# Altium footprint library WR-USB.PcbLib: 55 footprints (part 3 of 4)
Each footprint in its own frame and in the unit in brackets; x right, y up, seen from the top. Pads: shape width x height; smd on the part's side, far side on the other; paste and mask are expansions set on the pad; w line width, h text height; cw(c..) or ccw(c..) is an arc to the next point about the centre after c.
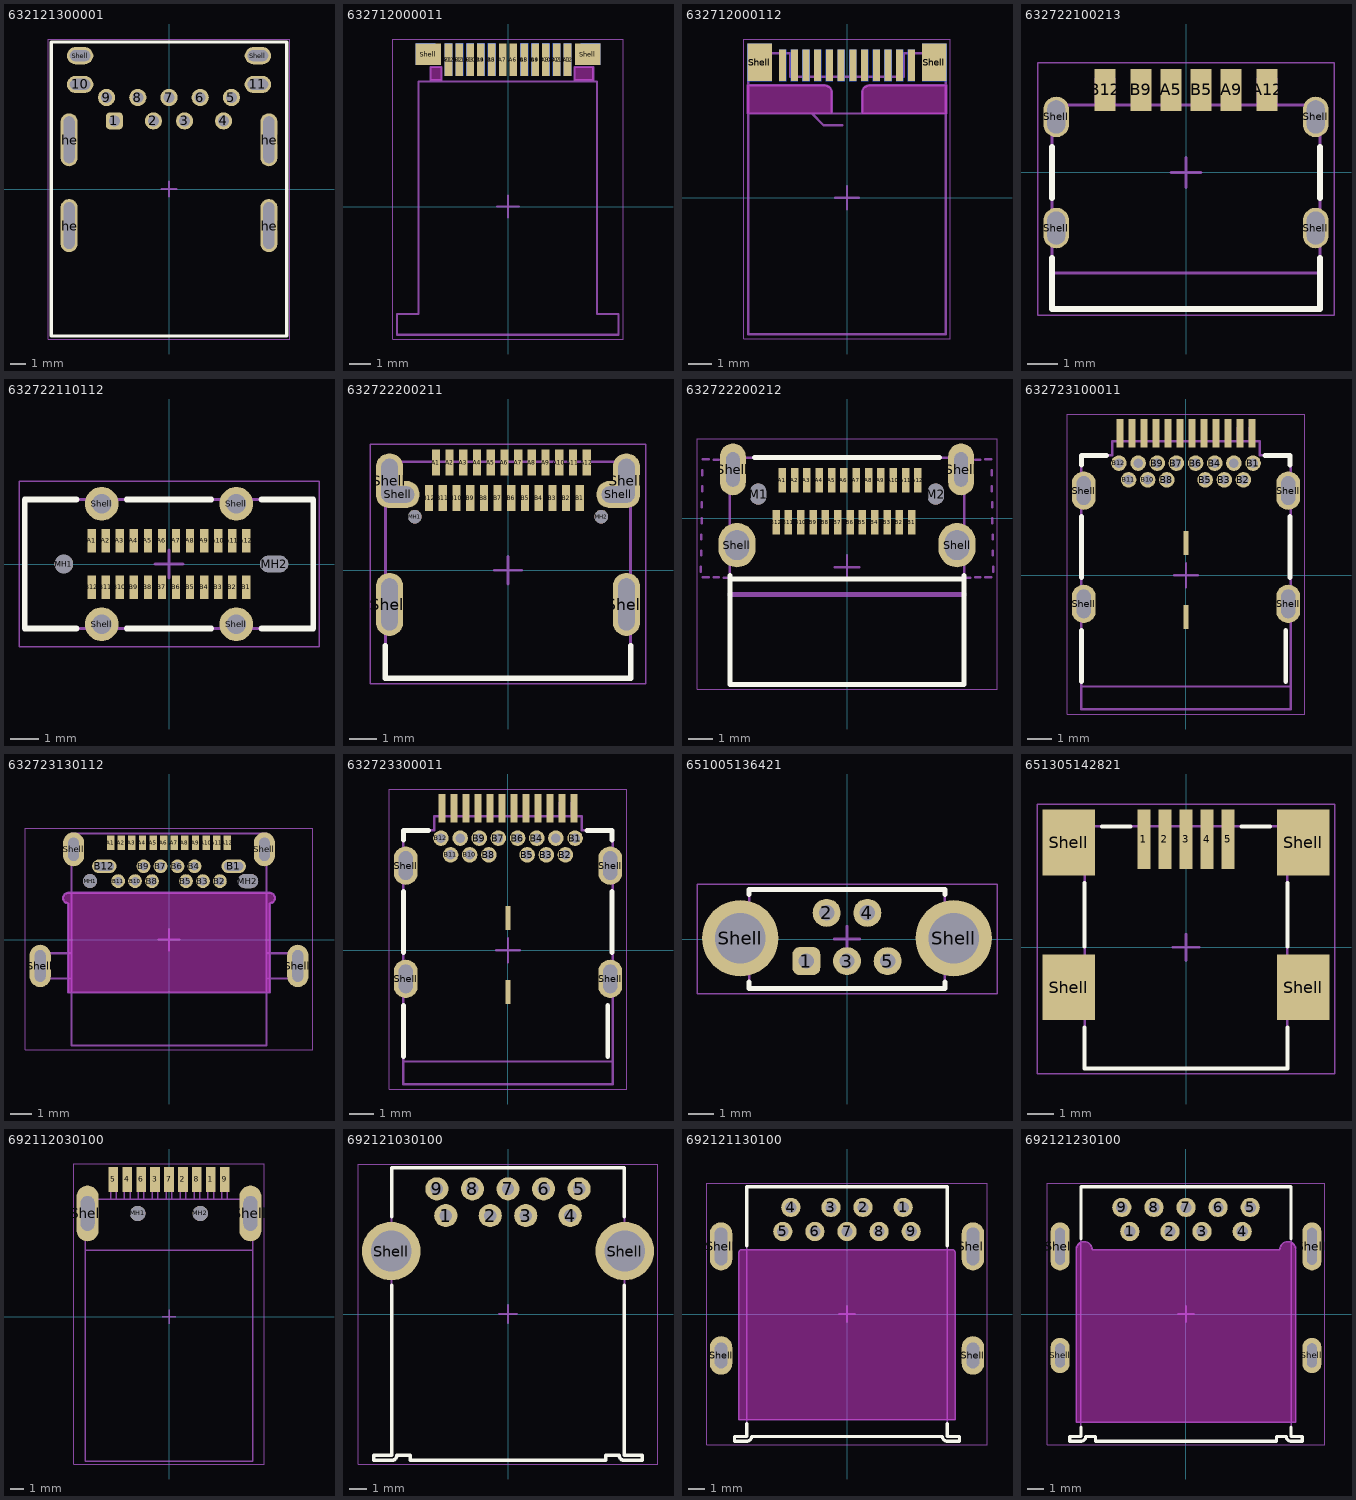
[diagram p2: the footprints below, top view; thin cyan lines are the x and y axes]

## 632121300001 [mm] "USB 3.1 Type A Receptacle Horizontal THT Power Delivery"
height 8.01
pads (17):
  rrect50% 1.1x1.1 hole 0.7: 1(-3.5,4.365)
  round 1.1 hole 0.7: 2(-1,4.365) 3(1,4.365) 4(3.5,4.365) 5(4,5.865) 6(2,5.865) 7(0,5.865) 8(-2,5.865) 9(-4,5.865)
  oval 1.7x1.1 hole 0.7 slot 1.3 at 0 deg: 10(-5.7,6.705) 11(5.7,6.705) Shell(-5.7,8.545) Shell(5.7,8.545)
  oval 1.1x3.4 hole 0.7 slot 3 at 90 deg: Shell(-6.4,-2.345) Shell(-6.4,3.155) Shell(6.4,-2.345) Shell(6.4,3.155)
Top Overlay:
  lines w0.2: -7.55,-9.415 7.55,-9.415 7.55,9.415 -7.55,9.415 -7.55,-9.415
Top Assembly:
  lines w0.1: -7.55,-9.415 -7.55,9.415 7.55,9.415 7.55,-9.415 -7.55,-9.415
Top Designator:
  text ".Designator" at -3.647,-0.357 h1
Top 3D Body:
  lines w0.1: -7.55,-9.415 -7.55,9.415 7.55,9.415 7.55,-9.415 -7.55,-9.415
Top Courtyard:
  lines w0.05: -7.75,-9.615 -7.75,9.615 7.75,9.615 7.75,-9.615 -7.75,-9.615
Top Component Center:
  lines w0.1: -0.5,0 0.5,0 ; 0,-0.5 0,0.5
3D body "632121300001.stp": height 8.06, standoff -1.76, extent -7.55,-9.415 7.55,9.415

## 632712000011 [mm] "USB 3.1 Type C Plug Horizontal SMT"
height 2.4
pads (26):
  rect 0.35x1.5 smd: A1(2.75,6.8) A2(2.25,6.8) A3(1.75,6.8) A4(1.25,6.8) A5(0.75,6.8) A6(0.25,6.8) A7(-0.25,6.8) A8(-0.75,6.8) A9(-1.25,6.8) A10(-1.75,6.8) A11(-2.25,6.8) A12(-2.75,6.8)
  rect 0.35x1.5 smd far side: B1(-2.75,6.8) B2(-2.25,6.8) B3(-1.75,6.8) B4(-1.25,6.8) B5(-0.75,6.8) B8(0.75,6.8) B9(1.25,6.8) B10(1.75,6.8) B11(2.25,6.8) B12(2.75,6.8)
  rect 0.9x1 smd far side: Shell(-3.825,7.05) Shell(3.825,7.05)
  rect 1.18x1 smd: Shell(-3.69,7.05) Shell(3.69,7.05)
Keep-Out Layer:
  board cut-out: -3.58,5.85 -3.58,6.45 -3.08,6.45 -3.08,5.85
  board cut-out: 3.075,5.85 3.075,6.45 3.945,6.45 3.945,5.85
Board Shape:
  lines w0.1: -3.58,5.85 -3.08,5.85 -3.08,6.45 -3.58,6.45 -3.58,5.85 ; 3.075,5.85 3.945,5.85 3.945,6.45 3.075,6.45 3.075,5.85
Top Assembly:
  lines w0.1: -5.135,-5.92 -5.135,-4.97 -4.135,-4.97 -4.135,5.78 4.115,5.78 4.115,-4.97 5.115,-4.97 5.115,-5.92 -5.135,-5.92
Top Designator:
  text ".Designator" at -3.647,-0.357 h1
Top 3D Body:
  lines w0.1: -5.135,-5.92 -5.135,-4.97 -4.135,-4.97 -4.135,5.78 4.115,5.78 4.115,-4.97 5.115,-4.97 5.115,-5.92 -5.135,-5.92
Top Courtyard:
  lines w0.05: -5.335,-6.12 -5.335,7.75 5.335,7.75 5.335,-6.12 -5.335,-6.12
Top Component Center:
  lines w0.1: -0.5,0 0.5,0 ; 0,-0.5 0,0.5
3D body "632712000011.stp": height 1.74, standoff -2.46, extent -5.135,-5.92 5.115,7.48

## 632712000112 [mm] "USB_ Type C 3.1 Plug_Horizontal_SMT_0,8mm"
height 3.87
pads (28):
  rect 0.3x1.35 smd: A1(2.75,5.65) A2(2.25,5.65) A3(1.75,5.65) A4(1.25,5.65) A5(0.75,5.65) A6(0.25,5.65) A7(-0.25,5.65) A8(-0.75,5.65) A9(-1.25,5.65) A10(-1.75,5.65) A11(-2.25,5.65) A12(-2.75,5.65)
  rect 0.3x1.35 smd far side: B1(-2.75,5.65) B2(-2.25,5.65) B3(-1.75,5.65) B4(-1.25,5.65) B5(-0.75,5.65) B6(-0.25,5.65) B7(0.25,5.65) B8(0.75,5.65) B9(1.25,5.65) B10(1.75,5.65) B11(2.25,5.65) B12(2.75,5.65)
  rect 1.04x1.6 smd: Shell(-3.73,5.775) Shell(3.73,5.775)
  rect 1.04x1.6 smd far side: Shell(-3.73,5.775) Shell(3.73,5.775)
Keep-Out Layer:
  board cut-out: -4.25,3.595 -4.25,4.795 -0.95,4.795 -0.89,4.795 -0.78,4.749 -0.696,4.665 -0.65,4.555 -0.65,4.495 -0.65,3.595
  board cut-out: 0.65,3.595 0.65,4.495 0.65,4.555 0.696,4.665 0.78,4.749 0.89,4.795 0.95,4.795 4.25,4.795 4.25,3.595
Board Shape:
  lines w0.1: 4.25,4.795 4.25,3.595 0.65,3.595 0.65,4.495 cw(c0.95,4.495) 0.95,4.795 4.25,4.795 ; -4.25,3.595 -0.65,3.595 -0.65,4.495 ccw(c-0.95,4.495) -0.95,4.795 -4.25,4.795 -4.25,3.595
Assembly Notes:
  lines w0.1: -4.25,3.595 4.25,3.595 ; -1.5,3.595 -1,3.095 -0.2,3.095
  text "PCB End" at 0,2.695 h1.02
Top Assembly:
  lines w0.1: -4.215,-5.83 4.215,-5.83 4.215,6.17 2.43,6.17 2.43,5.17 -2.43,5.17 -2.43,6.17 -4.215,6.17 -4.215,-5.83
Top Designator:
  text ".Designator" at -3.647,-0.357 h1
Top 3D Body:
  lines w0.1: -4.215,-5.83 4.215,-5.83 4.215,6.17 2.43,6.17 2.43,5.17 -2.43,5.17 -2.43,6.17 -4.215,6.17 -4.215,-5.83
Top Courtyard:
  lines w0.05: -4.415,-6.03 4.415,-6.03 4.415,6.775 -4.415,6.775 -4.415,-6.03
Top Component Center:
  lines w0.1: -0.5,0 0.5,0 ; 0,-0.5 0,0.5
3D body "632712000112.stp": height 1.51, standoff -2.21, extent -4.215,-5.83 4.215,6.17

## 632722100213 [mm] "USB type C receptacle connector"
height 3.28
pads (10):
  rect 0.7x1.4 smd: A5(-0.5,2.75) A9(1.5,2.75) A12(2.7,2.75) B5(0.5,2.75) B9(-1.5,2.75) B12(-2.7,2.75)
  oval 0.85x1.35 hole 0.6 slot 1.1 at 90 deg: Shell(-4.32,-1.85) Shell(-4.32,1.85) Shell(4.32,-1.85) Shell(4.32,1.85)
Top Overlay:
  lines w0.2: -4.47,-2.85 -4.47,-4.55 4.47,-4.55 4.47,-2.85 ; -4.47,-0.85 -4.47,0.85 ; 4.47,-0.85 4.47,0.85
Assembly Notes:
  lines w0.1: -4.5,-3.35 4.5,-3.35
  text "PCB Edge" at -2.034,-4.332 h1
Top Assembly:
  lines w0.1: -3,2.25 -3,3.15 -2.4,3.15 -2.4,2.25 ; -1.75,2.25 -1.75,3.15 -1.25,3.15 -1.25,2.25 ; -0.75,2.25 -0.75,3.15 -0.25,3.15 -0.25,2.25 ; 0.25,2.25 0.25,3.15 0.75,3.15 0.75,2.25 ; 1.25,2.25 1.25,3.15 1.75,3.15 1.75,2.25 ; 2.4,2.25 2.4,3.15 3,3.15 3,2.25 ; -4.47,-4.55 -4.47,2.25 4.47,2.25 4.47,-4.55 -4.47,-4.55
Top Designator:
  text ".Designator" at -3.647,-0.357 h1
Top 3D Body:
  lines w0.1: -3,2.25 -3,3.15 -2.4,3.15 -2.4,2.25 ; -1.75,2.25 -1.75,3.15 -1.25,3.15 -1.25,2.25 ; -0.75,2.25 -0.75,3.15 -0.25,3.15 -0.25,2.25 ; 0.25,2.25 0.25,3.15 0.75,3.15 0.75,2.25 ; 1.25,2.25 1.25,3.15 1.75,3.15 1.75,2.25 ; 2.4,2.25 2.4,3.15 3,3.15 3,2.25 ; -4.47,-4.55 4.47,-4.55 4.47,2.25 -4.47,2.25 -4.47,-4.55
Top Courtyard:
  lines w0.05: -4.945,-4.75 4.945,-4.75 4.945,3.65 -4.945,3.65 -4.945,-4.75
Top Component Center:
  lines w0.1: -0.5,0 0.5,0 ; 0,-0.5 0,0.5
3D body "632722100213.stp": height 3.3, standoff -1.15, extent -4.47,-4.55 4.47,3.15

## 632722110112 [mm] "USB_Type C 3.1_Vertical_SMT_1,0mm"
height 7.6
pads (30):
  rect 0.3x0.85 smd: A1(-2.75,0.83) A2(-2.25,0.83) A3(-1.75,0.83) A4(-1.25,0.83) A5(-0.75,0.83) A6(-0.25,0.83) A7(0.25,0.83) A8(0.75,0.83) A9(1.25,0.83) A10(1.75,0.83) A11(2.25,0.83) A12(2.75,0.83) B1(2.75,-0.83) B2(2.25,-0.83) B3(1.75,-0.83) B4(1.25,-0.83) B5(0.75,-0.83) B6(0.25,-0.83) B7(-0.25,-0.83) B8(-0.75,-0.83) B9(-1.25,-0.83) B10(-1.75,-0.83) B11(-2.25,-0.83) B12(-2.75,-0.83)
  round 0.66 hole 0.66 unplated: MH1(-3.75,0)
  oval 1x0.58 hole 0.58 slot 1 at 0 deg unplated: MH2(3.75,0)
  round 1.2 hole 0.7: Shell(-2.4,-2.15) Shell(-2.4,2.15) Shell(2.4,-2.15) Shell(2.4,2.15)
Top Overlay:
  lines w0.2: -3.3,-2.3 -5.15,-2.3 -5.15,2.3 -3.3,2.3 ; -1.5,-2.3 1.5,-2.3 ; -1.5,2.3 1.5,2.3 ; 3.3,-2.3 5.15,-2.3 5.15,2.3 3.3,2.3
Top Assembly:
  lines w0.1: -5.15,-2.3 -5.15,2.3 5.15,2.3 5.15,-2.3 -5.15,-2.3
Top Designator:
  text ".Designator" at -3.647,-0.357 h1
Top 3D Body:
  lines w0.1: -5.15,-2.3 -5.15,2.3 5.15,2.3 5.15,-2.3 -5.15,-2.3
Top Courtyard:
  lines w0.05: -5.35,-2.95 5.35,-2.95 5.35,2.95 -5.35,2.95 -5.35,-2.95
Top Component Center:
  lines w0.1: -0.5,0 0.5,0 ; 0,-0.5 0,0.5
3D body "632722110112.stp": height 7.95, standoff -1.32, extent -5.15,-2.3 5.15,2.3

## 632722200211 [mm] "USB 3.1 Type C"
height 3.16
pads (32):
  rect 0.3x0.95 smd: A1(-2.63,3.925) A2(-2.13,3.925) A3(-1.63,3.925) A4(-1.13,3.925) A5(-0.63,3.925) A6(-0.13,3.925) A7(0.37,3.925) A8(0.87,3.925) A9(1.37,3.925) A10(1.87,3.925) A11(2.37,3.925) A12(2.87,3.925) B1(2.62,2.625) B2(2.12,2.625) B3(1.62,2.625) B4(1.12,2.625) B5(0.62,2.625) B6(0.12,2.625) B7(-0.38,2.625) B8(-0.88,2.625) B9(-1.38,2.625) B10(-1.88,2.625) B11(-2.38,2.625) B12(-2.88,2.625)
  round 0.5 hole 0.5 unplated: MH1(-3.4,1.95) MH2(3.4,1.95)
  oval 1x2.3 hole 0.6 slot 1.9 at 90 deg: Shell(-4.32,-1.25) Shell(4.32,-1.25)
  oval 1x2 hole 0.6 slot 1.6 at 90 deg: Shell(-4.32,3.26) Shell(4.32,3.26)
  oval 1.6x1 hole 0.6 slot 1.2 at 0 deg: Shell(-4.02,2.76) Shell(4.02,2.76)
Top Overlay:
  lines w0.2: -4.47,-2.75 -4.47,-3.95 4.47,-3.95 4.47,-2.75
Top Assembly:
  lines w0.1: -4.47,-3.95 4.47,-3.95 4.47,3.95 -4.47,3.95 -4.47,-3.95
Top Designator:
  text ".Designator" at -3.647,-0.357 h1
Top 3D Body:
  lines w0.1: -4.47,-3.95 4.47,-3.95 4.47,3.95 -4.47,3.95 -4.47,-3.95
Top Courtyard:
  lines w0.05: -5.02,-4.15 5.02,-4.15 5.02,4.6 -5.02,4.6 -5.02,-4.15
Top Component Center:
  lines w0.1: -0.5,0 0.5,0 ; 0,-0.5 0,0.5
3D body "632722200211.stp": height 3.17, standoff -0.47, extent -4.47,-3.95 4.47,4.15

## 632722200212 [mm] "USB 3.1 Horizontal Receptacle SMT"
height 5.5
pads (30):
  rect 0.3x1 smd: A1(-2.625,1.54) A2(-2.125,1.54) A3(-1.625,1.54) A4(-1.125,1.54) A5(-0.625,1.54) A6(-0.125,1.54) A7(0.375,1.54) A8(0.875,1.54) A9(1.375,1.54) A10(1.875,1.54) A11(2.375,1.54) A12(2.875,1.54) B1(2.625,-0.16) B2(2.125,-0.16) B3(1.625,-0.16) B4(1.125,-0.16) B5(0.625,-0.16) B6(0.125,-0.16) B7(-0.375,-0.16) B8(-0.875,-0.16) B9(-1.375,-0.16) B10(-1.875,-0.16) B11(-2.375,-0.16) B12(-2.875,-0.16)
  oval 0.65x0.85 hole 0.65 slot 0.85 at 90 deg unplated: M1(-3.6,0.98) M2(3.6,0.98)
  oval 1.05x2.1 hole 0.55 slot 1.4 at 90 deg: Shell(-4.625,1.98) Shell(4.625,1.98)
  oval 1.5x1.8 hole 0.98 slot 1.2 at 90 deg: Shell(-4.46,-1.09) Shell(4.46,-1.09)
Top Overlay:
  lines w0.2: -4.75,-2.46 4.75,-2.46 ; -4.75,-2.31 -4.75,-6.74 4.75,-6.74 4.75,-2.31 ; -3.75,2.46 3.75,2.46
Assembly Notes:
  lines w0.2: -4.75,-3.09 4.75,-3.09
  text "PCB Edge" at -3.2,-4.587 h1
Top Assembly:
  lines w0.1: -5.92,-2.16 -5.92,-1.96 ; -5.91,-1.51 -5.91,-1.31 ; -5.9,-0.86 -5.9,-0.66 ; -5.89,-0.21 -5.89,-0.01 ; -5.88,0.44 -5.88,0.64 ; -5.87,1.09 -5.87,1.29 ; -5.86,1.74 -5.86,1.94 ; -5.85,-2.39 -5.61,-2.39 ; -5.85,2.39 -5.61,2.39 ; -5.4,-2.4 -5.2,-2.4 ; -5.4,2.38 -5.2,2.38 ; -4.99,-2.41 -4.79,-2.41 ; -4.99,2.37 -4.79,2.37 ; -4.75,-2.46 4.75,-2.46 ; 4.79,-2.41 4.99,-2.41 ; 4.79,2.37 4.99,2.37 ; 5.2,-2.4 5.4,-2.4 ; 5.2,2.38 5.4,2.38 ; 5.61,-2.39 5.85,-2.39 ; 5.61,2.39 5.85,2.39 ; 5.86,1.74 5.86,1.94 ; 5.87,1.09 5.87,1.29 ; 5.88,0.44 5.88,0.64 ; 5.89,-0.21 5.89,-0.01 ; 5.9,-0.86 5.9,-0.66 ; 5.91,-1.51 5.91,-1.31 ; 5.92,-2.16 5.92,-1.96 ; -4.75,-6.74 -4.75,2.46 4.75,2.46 4.75,-6.74 -4.75,-6.74
Top Designator:
  text ".Designator" at -3.647,-2.347 h1
Top 3D Body:
  lines w0.1: -4.75,-2.46 4.75,-2.46 ; -4.75,-6.74 -4.75,2.46 4.75,2.46 4.75,-6.74 -4.75,-6.74
Top Courtyard:
  lines w0.05: -6.08,-6.94 6.08,-6.94 6.08,3.23 -6.08,3.23 -6.08,-6.94
Top Component Center:
  lines w0.1: -0.5,-1.99 0.5,-1.99 ; 0,-2.49 0,-1.49
3D body "632722200212.stp": height 5.51, standoff -1.31, extent -4.755,-6.74 4.75,2.46

## 632723100011 [mm] "USB 3.1 Type C Receptacle Horizontal THR"
height 2.96
pads (32):
  rect 0.3x1.2 smd: A1(-2.75,5.93) A2(-2.25,5.93) A3(-1.75,5.93) A4(-1.25,5.93) A5(-0.75,5.93) A6(-0.25,5.93) A7(0.25,5.93) A8(0.75,5.93) A9(1.25,5.93) A10(1.75,5.93) A11(2.25,5.93) A12(2.75,5.93)
  round 0.65 hole 0.4: B1(2.8,4.68) B2(2.4,3.98) B3(1.6,3.98) B4(1.2,4.68) B5(0.8,3.98) B6(0.4,4.68) B7(-0.4,4.68) B8(-0.8,3.98) B9(-1.2,4.68) B10(-1.6,3.98) B11(-2.4,3.98) B12(-2.8,4.68) Shell(-2,4.68) Shell(2,4.68)
  oval 1x1.6 hole 0.6 slot 1.2 at 90 deg: Shell(-4.27,-1.2) Shell(-4.27,3.53) Shell(4.27,-1.2) Shell(4.27,3.53)
  rect 0.2x1 smd: Shell(0,-1.75) Shell(0,1.35)
Top Overlay:
  lines w0.2: -4.37,-4.45 -4.37,-2.3 ; -4.37,-0.1 -4.37,2.45 ; -4.37,4.6 -4.37,5 -3.32,5 ; 3.29,5 4.34,5 4.34,4.6 ; 4.17,-4.45 4.17,-2.3 ; 4.34,-0.1 4.34,2.45
Assembly Notes:
  lines w0.1: -4.37,-4.65 4.37,-4.65
  text "PCB Edge" at -1.7,-5.6 h0.61
Top Assembly:
  lines w0.05: -2.85,5.6 -2.85,6.19 -2.65,6.19 -2.65,5.6 ; -2.35,5.6 -2.35,6.19 -2.15,6.19 -2.15,5.6 ; -1.85,5.6 -1.85,6.19 -1.65,6.19 -1.65,5.6 ; -1.35,5.6 -1.35,6.19 -1.15,6.19 -1.15,5.6 ; -0.85,5.6 -0.85,6.19 -0.65,6.19 -0.65,5.6 ; -0.35,5.6 -0.35,6.19 -0.15,6.19 -0.15,5.6 ; 0.15,5.6 0.15,6.19 0.35,6.19 0.35,5.6 ; 0.65,5.6 0.65,6.19 0.85,6.19 0.85,5.6 ; 1.15,5.6 1.15,6.19 1.35,6.19 1.35,5.6 ; 1.65,5.6 1.65,6.19 1.85,6.19 1.85,5.6 ; 2.15,5.6 2.15,6.19 2.35,6.19 2.35,5.6 ; 2.65,5.6 2.65,6.19 2.85,6.19 2.85,5.6
  lines w0.1: 4.34,-5.6 -4.37,-5.6 -4.37,5 -3.08,5 -3.08,5.6 3.08,5.6 3.08,5 4.37,5 4.37,-5.6
Top Designator:
  text ".Designator" at -3.647,-0.357 h1
Top 3D Body:
  lines w0.1: 4.34,-5.6 -4.37,-5.6 -4.37,5 -3.08,5 -3.08,5.6 3.08,5.6 3.08,5 4.37,5 4.37,-5.6
Top Courtyard:
  lines w0.05: -4.97,-5.8 4.97,-5.8 4.97,6.73 -4.97,6.73 -4.97,-5.8
Top Component Center:
  lines w0.1: -0.5,0 0.5,0 ; 0,-0.5 0,0.5
3D body "632723100011.stp": height 3.05, standoff -1.41, extent -4.37,-5.625 4.37,6.201

## 632723130112 [mm] "USB_Type C 3.1_Mid-Mount_THR/SMT_1,6mm"
height 3.42
pads (30):
  rect 0.35x0.7 smd: A1(-2.75,4.57) A2(-2.25,4.57) A3(-1.75,4.57) A4(-1.25,4.57) A5(-0.75,4.57) A6(-0.25,4.57) A7(0.25,4.57) A8(0.75,4.57) A9(1.25,4.57) A10(1.75,4.57) A11(2.25,4.57) A12(2.75,4.57)
  oval 1.15x0.65 hole 0.4 slot 0.9 at 0 deg: B1(3.05,3.46) B12(-3.05,3.46)
  round 0.65 hole 0.4: B2(2.4,2.76) B3(1.6,2.76) B4(1.2,3.46) B5(0.8,2.76) B6(0.4,3.46) B7(-0.4,3.46) B8(-0.8,2.76) B9(-1.2,3.46) B10(-1.6,2.76) B11(-2.4,2.76)
  round 0.65 hole 0.65 unplated: MH1(-3.725,2.76)
  oval 0.95x0.65 hole 0.65 slot 0.95 at 0 deg unplated: MH2(3.725,2.76)
  oval 1x2 hole 0.5 slot 1.5 at 90 deg: Shell(-6.075,-1.24) Shell(6.075,-1.24)
  oval 1x1.6 hole 0.5 slot 1.1 at 90 deg: Shell(-4.5,4.26) Shell(4.5,4.26)
Keep-Out Layer:
  board cut-out: -4.75,-2.49 4.75,-2.49 4.75,1.71 4.8,1.71 4.892,1.748 4.962,1.818 5,1.91 5,2.01 4.962,2.102 4.892,2.172 4.8,2.21 4.75,2.21 -4.75,2.21 -4.8,2.21 -4.892,2.172 -4.962,2.102 -5,2.01 -5,1.91 -4.962,1.818 -4.892,1.748 -4.8,1.71 -4.75,1.71
Board Shape:
  lines w0.1: -4.75,-2.49 4.75,-2.49 4.75,1.71 ccw(c4.75,1.96) 4.75,2.21 -4.75,2.21 ccw(c-4.75,1.96) -4.75,1.71 -4.75,-2.49
  text "Milling Area" at -2.2,-0.34 h1.02
Assembly Notes:
  lines w0.1: -4.75,-2.49 4.75,-2.49
  text "PCB End" at -1.85,-3.39 h1.02
Top Assembly:
  lines w0.1: -4.6,-1.84 -6.175,-1.84 -6.175,-0.64 -4.6,-0.64 ; 4.6,-1.84 6.175,-1.84 6.175,-0.64 4.6,-0.64 ; -4.6,-5 4.6,-5 4.6,5 -4.6,5 -4.6,-5
Top Designator:
  text ".Designator" at -3.647,-0.357 h1
Top 3D Body:
  lines w0.1: -4.6,-1.84 -6.175,-1.84 -6.175,-0.64 -4.6,-0.64 ; 4.6,-1.84 6.175,-1.84 6.175,-0.64 4.6,-0.64 ; -4.6,-5 4.6,-5 4.6,5 -4.6,5 -4.6,-5
Top Courtyard:
  lines w0.05: -6.775,-5.2 -6.775,5.26 6.775,5.26 6.775,-5.2 -6.775,-5.2
Top Component Center:
  lines w0.1: -0.5,0 0.5,0 ; 0,-0.5 0,0.5
3D body "632723130112.stp": height 2.04, standoff -1.56, extent -6.175,-5 6.175,4.994

## 632723300011 [mm] "USB 3.1 Type C Receptacle Horizontal THR"
height 2.96
pads (32):
  rect 0.3x1.2 smd: A1(-2.75,5.93) A2(-2.25,5.93) A3(-1.75,5.93) A4(-1.25,5.93) A5(-0.75,5.93) A6(-0.25,5.93) A7(0.25,5.93) A8(0.75,5.93) A9(1.25,5.93) A10(1.75,5.93) A11(2.25,5.93) A12(2.75,5.93)
  round 0.65 hole 0.4: B1(2.8,4.68) B2(2.4,3.98) B3(1.6,3.98) B4(1.2,4.68) B5(0.8,3.98) B6(0.4,4.68) B7(-0.4,4.68) B8(-0.8,3.98) B9(-1.2,4.68) B10(-1.6,3.98) B11(-2.4,3.98) B12(-2.8,4.68) Shell(-2,4.68) Shell(2,4.68)
  oval 1x1.6 hole 0.6 slot 1.2 at 90 deg: Shell(-4.27,-1.2) Shell(-4.27,3.53) Shell(4.27,-1.2) Shell(4.27,3.53)
  rect 0.2x1 smd: Shell(0,-1.75) Shell(0,1.35)
Top Overlay:
  lines w0.2: -4.37,-4.45 -4.37,-2.3 ; -4.37,-0.1 -4.37,2.45 ; -4.37,4.6 -4.37,5 -3.32,5 ; 3.29,5 4.34,5 4.34,4.6 ; 4.17,-4.45 4.17,-2.3 ; 4.34,-0.1 4.34,2.45
Assembly Notes:
  lines w0.1: -4.37,-4.65 4.37,-4.65
  text "PCB Edge" at -1.7,-5.6 h0.61
Top Assembly:
  lines w0.05: -2.85,5.6 -2.85,6.19 -2.65,6.19 -2.65,5.6 ; -2.35,5.6 -2.35,6.19 -2.15,6.19 -2.15,5.6 ; -1.85,5.6 -1.85,6.19 -1.65,6.19 -1.65,5.6 ; -1.35,5.6 -1.35,6.19 -1.15,6.19 -1.15,5.6 ; -0.85,5.6 -0.85,6.19 -0.65,6.19 -0.65,5.6 ; -0.35,5.6 -0.35,6.19 -0.15,6.19 -0.15,5.6 ; 0.15,5.6 0.15,6.19 0.35,6.19 0.35,5.6 ; 0.65,5.6 0.65,6.19 0.85,6.19 0.85,5.6 ; 1.15,5.6 1.15,6.19 1.35,6.19 1.35,5.6 ; 1.65,5.6 1.65,6.19 1.85,6.19 1.85,5.6 ; 2.15,5.6 2.15,6.19 2.35,6.19 2.35,5.6 ; 2.65,5.6 2.65,6.19 2.85,6.19 2.85,5.6
  lines w0.1: 4.34,-5.6 -4.37,-5.6 -4.37,5 -3.08,5 -3.08,5.6 3.08,5.6 3.08,5 4.37,5 4.37,-5.6
Top Designator:
  text ".Designator" at -3.647,-0.357 h1
Top 3D Body:
  lines w0.1: 4.34,-5.6 -4.37,-5.6 -4.37,5 -3.08,5 -3.08,5.6 3.08,5.6 3.08,5 4.37,5 4.37,-5.6
Top Courtyard:
  lines w0.05: -4.97,-5.8 4.97,-5.8 4.97,6.73 -4.97,6.73 -4.97,-5.8
Top Component Center:
  lines w0.1: -0.5,0 0.5,0 ; 0,-0.5 0,0.5
3D body "632723300011.stp": height 3.05, standoff -1.81, extent -4.37,-5.625 4.37,6.201

## 651005136421 [mm] "Mini USB 2.0 Type B Vertical 5 Contacts"
height 9.2
pads (7):
  rrect50% 1.1x1.1 hole 0.6: 1(-1.6,-0.87)
  round 1.1 hole 0.6: 2(-0.8,1.03) 3(0,-0.87) 4(0.8,1.03) 5(1.6,-0.87)
  round 3 hole 2: Shell(-4.2,0.03) Shell(4.2,0.03)
Top Overlay:
  lines w0.2: -3.85,-1.7 -3.85,-1.95 3.85,-1.95 3.85,-1.7 ; -3.85,1.75 -3.85,1.95 3.85,1.95 3.85,1.75
Top Assembly:
  lines w0.1: -3.85,-1.95 -3.85,1.95 3.85,1.95 3.85,-1.95 -3.85,-1.95
Top Designator:
  text ".Designator" at -3.647,-0.357 h1
Top 3D Body:
  lines w0.1: -3.85,-1.95 -3.85,1.95 3.85,1.95 3.85,-1.95 -3.85,-1.95
Top Courtyard:
  lines w0.05: -5.9,-2.15 5.9,-2.15 5.9,2.15 -5.9,2.15 -5.9,-2.15
Top Component Center:
  lines w0.1: -0.5,0 0.5,0 ; 0,-0.5 0,0.5
3D body "651005136421.stp": height 9.4, standoff -2.6, extent -5.099,-1.92 5.098,1.98

## 651305142821 [mm] "Mini USB 2.0 Type AB SMT Horizontal 5 Contacts"
height 4
pads (9):
  rect 0.5x2.25 smd: 1(-1.6,4.113) 2(-0.8,4.113) 3(0,4.113) 4(0.8,4.113) 5(1.6,4.113)
  rect 2x2.5 smd: Shell(-4.45,-1.512) Shell(-4.45,3.988) Shell(4.45,-1.512) Shell(4.45,3.988)
Top Overlay:
  lines w0.15: -3.85,-3.05 -3.85,-4.6 3.85,-4.6 3.85,-3.05 ; -3.85,0.025 -3.85,2.45 ; -3.2,4.6 -2.1,4.6 ; 2.1,4.6 3.2,4.6 ; 3.85,0.025 3.85,2.45
Top Assembly:
  lines w0.1: -3.85,-4.6 3.85,-4.6 3.85,4.6 -3.85,4.6 -3.85,-4.6
Top Designator:
  text ".Designator" at -3.647,-0.357 h1
Top 3D Body:
  lines w0.1: -3.85,-4.6 3.85,-4.6 3.85,4.6 -3.85,4.6 -3.85,-4.6
Top Courtyard:
  lines w0.05: -5.65,-4.8 -5.65,5.438 5.65,5.438 5.65,-4.8 -5.65,-4.8
Top Component Center:
  lines w0.1: -0.5,0 0.5,0 ; 0,-0.5 0,0.5
3D body "651305142821.stp": height 4.1, standoff 0, extent -4.95,-4.6 4.95,4.8

## 692112030100 [mm] "USB 3.0 Type A SMT Plug with Clip"
height 4.5
pads (13):
  rect 0.7x1.8 smd: 1(3,9.875) 2(1,9.875) 3(-1,9.875) 4(-3,9.875) 5(-4,9.875) 6(-2,9.875) 7(0,9.875) 8(2,9.875) 9(4,9.875)
  round 1.1 hole 1.1 unplated: MH1(-2.25,7.425) MH2(2.25,7.425)
  oval 1.6x4 hole 1 slot 2.5 at 90 deg: Shell(-5.85,7.425) Shell(5.85,7.425)
Assembly Notes:
  lines w0.1: -6,4.775 6,4.775
  text "PCB Edge" at -1.8,3.9 h0.61
Top Assembly:
  lines w0.1: -4.2,8.425 -4.2,10.375 -3.8,10.375 -3.8,8.425 ; -3.2,8.425 -3.2,10.375 -2.8,10.375 -2.8,8.425 ; -2.2,8.425 -2.2,10.375 -1.8,10.375 -1.8,8.425 ; -1.2,8.425 -1.2,10.375 -0.8,10.375 -0.8,8.425 ; -0.2,8.425 -0.2,10.375 0.2,10.375 0.2,8.425 ; 0.8,8.425 0.8,10.375 1.2,10.375 1.2,8.425 ; 1.8,8.425 1.8,10.375 2.2,10.375 2.2,8.425 ; 2.8,8.425 2.8,10.375 3.2,10.375 3.2,8.425 ; 3.8,8.425 3.8,10.375 4.2,10.375 4.2,8.425 ; -6,-10.375 6,-10.375 6,8.425 -6,8.425 -6,-10.375
Top Designator:
  text ".Designator" at -3.647,-0.357 h1
Top 3D Body:
  lines w0.1: -4.2,8.425 -4.2,10.375 -3.8,10.375 -3.8,8.425 ; -3.2,8.425 -3.2,10.375 -2.8,10.375 -2.8,8.425 ; -2.2,8.425 -2.2,10.375 -1.8,10.375 -1.8,8.425 ; -1.2,8.425 -1.2,10.375 -0.8,10.375 -0.8,8.425 ; -0.2,8.425 -0.2,10.375 0.2,10.375 0.2,8.425 ; 0.8,8.425 0.8,10.375 1.2,10.375 1.2,8.425 ; 1.8,8.425 1.8,10.375 2.2,10.375 2.2,8.425 ; 2.8,8.425 2.8,10.375 3.2,10.375 3.2,8.425 ; 3.8,8.425 3.8,10.375 4.2,10.375 4.2,8.425 ; -6,-10.375 -6,8.425 6,8.425 6,-10.375 -6,-10.375
Top Courtyard:
  lines w0.05: -6.85,-10.575 6.85,-10.575 6.85,10.975 -6.85,10.975 -6.85,-10.575
Top Component Center:
  lines w0.1: -0.5,0 0.5,0 ; 0,-0.5 0,0.5
3D body "692112030100.stp": height 1.84, standoff -2.66, extent -6,-10.375 6,10.375

## 692121030100 [mm] "USB 3.0 Type A Horizontal"
height 6.99
pads (11):
  round 1.3 hole 0.7: 1(-3.5,5.54) 2(-1,5.54) 3(1,5.54) 4(3.5,5.54) 5(4,7.04) 6(2,7.04) 7(0,7.04) 8(-2,7.04) 9(-4,7.04)
  round 3.3 hole 2.3: Shell(-6.57,3.54) Shell(6.57,3.54)
Top Overlay:
  lines w0.2: -6.55,1.61 -6.55,-7.94 -7.55,-7.94 -7.55,-8.24 -6.56,-8.24 ccw(c-6.55,-7.94) -6.25,-7.94 -5.5,-7.94 -5.5,-8.24 5.5,-8.24 5.5,-7.94 6.25,-7.94 ccw(c6.55,-7.94) 6.56,-8.24 7.55,-8.24 7.55,-7.94 6.55,-7.94 6.55,1.61 ; -6.55,5.47 -6.55,8.24 6.55,8.24 6.55,5.47
Top Assembly:
  lines w0.1: -7.55,-8.24 -7.55,-7.94 -6.55,-7.94 -6.55,8.24 6.55,8.24 6.55,-7.94 7.55,-7.94 7.55,-8.24 6.56,-8.24 cw(c6.55,-7.94) 6.25,-7.94 5.5,-7.94 5.5,-8.24 -5.5,-8.24 -5.5,-7.94 -6.25,-7.94 cw(c-6.55,-7.94) -6.56,-8.24 -7.55,-8.24
Top Designator:
  text ".Designator" at -3.647,-0.357 h1
Top 3D Body:
  lines w0.1: -7.55,-8.24 -7.55,-7.94 -6.55,-7.94 -6.55,8.24 6.55,8.24 6.55,-7.94 7.55,-7.94 7.55,-8.24 6.56,-8.24 cw(c6.55,-7.94) 6.25,-7.94 5.5,-7.94 5.5,-8.24 -5.5,-8.24 -5.5,-7.94 -6.25,-7.94 cw(c-6.55,-7.94) -6.56,-8.24 -7.55,-8.24
Top Courtyard:
  lines w0.05: -8.42,-8.44 -8.42,8.44 8.42,8.44 8.42,-8.44 -8.42,-8.44
Top Component Center:
  lines w0.1: -0.5,0 0.5,0 ; 0,-0.5 0,0.5
3D body "692121030100.stp": height 8.07, standoff -3.16, extent -7.74,-8.24 7.74,8.31

## 692121130100 [mm] "USB 3.0 Type A Reverse Horizontal w. Offset 0.14mm"
height 5.12
pads (13):
  round 1.2 hole 0.7: 1(3.5,6.645) 2(1,6.645) 3(-1,6.645) 4(-3.5,6.645) 5(-4,5.145) 6(-2,5.145) 7(0,5.145) 8(2,5.145) 9(4,5.145)
  oval 1.4x2.4 hole 0.8 slot 1.6 at 90 deg: Shell(-7.85,-2.585) Shell(7.85,-2.585)
  oval 1.4x3 hole 0.8 slot 2.35 at 90 deg: Shell(-7.85,4.215) Shell(7.85,4.215)
Top Overlay:
  lines w0.2: -6.25,-6.835 -6.25,-7.635 -7.01,-7.635 -7.01,-7.935 -6.26,-7.935 ccw(c-6.25,-7.635) -5.95,-7.635 5.95,-7.635 ccw(c6.25,-7.635) 6.26,-7.935 7.01,-7.935 7.01,-7.635 6.25,-7.635 6.25,-6.835 ; -6.25,4.25 -6.25,7.935 6.25,7.935 6.25,4.25
Keep-Out Layer:
  board cut-out: -6.75,-6.585 6.75,-6.585 6.75,3.815 6.75,3.855 6.72,3.928 6.663,3.985 6.59,4.015 6.55,4.015 -6.55,4.015 -6.59,4.015 -6.663,3.985 -6.72,3.928 -6.75,3.855 -6.75,3.815
Board Shape:
  lines w0.1: -6.75,-6.585 -6.75,3.815 cw(c-6.55,3.815) -6.55,4.015 6.55,4.015 cw(c6.55,3.815) 6.75,3.815 6.75,-6.585 -6.75,-6.585
  text "PCB Cutout Area" at -4.5,-1.6 h0.81
Top Assembly:
  lines w0.1: -7.01,-7.935 -6.26,-7.935 ccw(c-6.25,-7.635) -5.95,-7.635 5.95,-7.635 ccw(c6.25,-7.635) 6.26,-7.935 7.01,-7.935 7.01,-7.635 6.25,-7.635 6.25,7.935 -6.25,7.935 -6.25,-7.635 -7.01,-7.635 -7.01,-7.935
Top Designator:
  text ".Designator" at -3.647,-0.357 h1
Top 3D Body:
  lines w0.1: -7.01,-7.935 -6.26,-7.935 ccw(c-6.25,-7.635) -5.95,-7.635 5.95,-7.635 ccw(c6.25,-7.635) 6.26,-7.935 7.01,-7.935 7.01,-7.635 6.25,-7.635 6.25,7.935 -6.25,7.935 -6.25,-7.635 -7.01,-7.635 -7.01,-7.935
Top Courtyard:
  lines w0.05: -8.75,-8.135 8.75,-8.135 8.75,8.135 -8.75,8.135 -8.75,-8.135
Top Component Center:
  lines w0.1: -0.5,0 0.5,0 ; 0,-0.5 0,0.5
3D body "692121130100.stp": height 4.05, standoff -3.67, extent -8.078,-7.935 8.078,7.935

## 692121230100 [mm] "USB 3.0 Type A Horizontal with Offset 1.04mm"
height 3.9
pads (13):
  round 1.2 hole 0.7: 1(-3.5,5.145) 2(-1,5.145) 3(1,5.145) 4(3.5,5.145) 5(4,6.645) 6(2,6.645) 7(0,6.645) 8(-2,6.645) 9(-4,6.645)
  oval 1.2x2.2 hole 0.6 slot 1.5 at 90 deg: Shell(-7.85,-2.585) Shell(7.85,-2.585)
  oval 1.2x3 hole 0.6 slot 2.3 at 90 deg: Shell(-7.85,4.215) Shell(7.85,4.215)
Top Overlay:
  lines w0.2: -6.55,-7.035 -6.55,-7.635 -7.25,-7.635 -7.25,-7.935 -6.56,-7.935 ccw(c-6.55,-7.635) -6.25,-7.635 -5.65,-7.635 -5.65,-7.935 5.65,-7.935 5.65,-7.635 6.25,-7.635 ccw(c6.55,-7.635) 6.56,-7.935 7.25,-7.935 7.25,-7.635 6.55,-7.635 6.55,-7.035 ; -6.55,4.685 -6.55,7.935 6.55,7.935 6.55,4.685
Keep-Out Layer:
  board cut-out: -6.85,-6.755 6.85,-6.755 6.85,4.015 6.85,4.115 6.774,4.298 6.633,4.439 6.449,4.515 6.251,4.515 6.067,4.439 5.926,4.298 5.85,4.115 5.85,4.015 -5.85,4.015 -5.85,4.115 -5.926,4.298 -6.067,4.439 -6.251,4.515 -6.449,4.515 -6.633,4.439 -6.774,4.298 -6.85,4.115 -6.85,4.015
Board Shape:
  lines w0.1: -6.85,-6.755 -6.85,4.015 cw(c-6.35,4.015) -5.85,4.015 5.85,4.015 cw(c6.35,4.015) 6.85,4.015 6.85,-6.755 -6.85,-6.755
  text "PCB Cutout Area" at -4.4,-1.3 h0.81
Top Assembly:
  lines w0.1: -7.25,-7.935 -6.56,-7.935 ccw(c-6.55,-7.635) -6.25,-7.635 -5.65,-7.635 -5.65,-7.935 5.65,-7.935 5.65,-7.635 6.25,-7.635 ccw(c6.55,-7.635) 6.56,-7.935 7.25,-7.935 7.25,-7.635 6.55,-7.635 6.55,7.935 -6.55,7.935 -6.55,-7.635 -7.25,-7.635 -7.25,-7.935
Top Designator:
  text ".Designator" at -3.647,-0.357 h1
Top 3D Body:
  lines w0.1: -7.25,-7.935 -6.56,-7.935 ccw(c-6.55,-7.635) -6.25,-7.635 -5.65,-7.635 -5.65,-7.935 5.65,-7.935 5.65,-7.635 6.25,-7.635 ccw(c6.55,-7.635) 6.56,-7.935 7.25,-7.935 7.25,-7.635 6.55,-7.635 6.55,7.935 -6.55,7.935 -6.55,-7.635 -7.25,-7.635 -7.25,-7.935
Top Courtyard:
  lines w0.05: -8.65,-8.135 -8.65,8.135 8.65,8.135 8.65,-8.135 -8.65,-8.135
Top Component Center:
  lines w0.1: -0.5,0 0.5,0 ; 0,-0.5 0,0.5
3D body "692121230100.stp": height 4.65, standoff -2.47, extent -8,-7.935 8,7.935